# Altium footprint library INF-PG-TO220-7-12.PcbLib: 1 footprints
Each footprint in its own frame and in the unit in brackets; x right, y up, seen from the top. Pads: shape width x height; smd on the part's side, far side on the other; paste and mask are expansions set on the pad; w line width, h text height; cw(c..) or ccw(c..) is an arc to the next point about the centre after c.
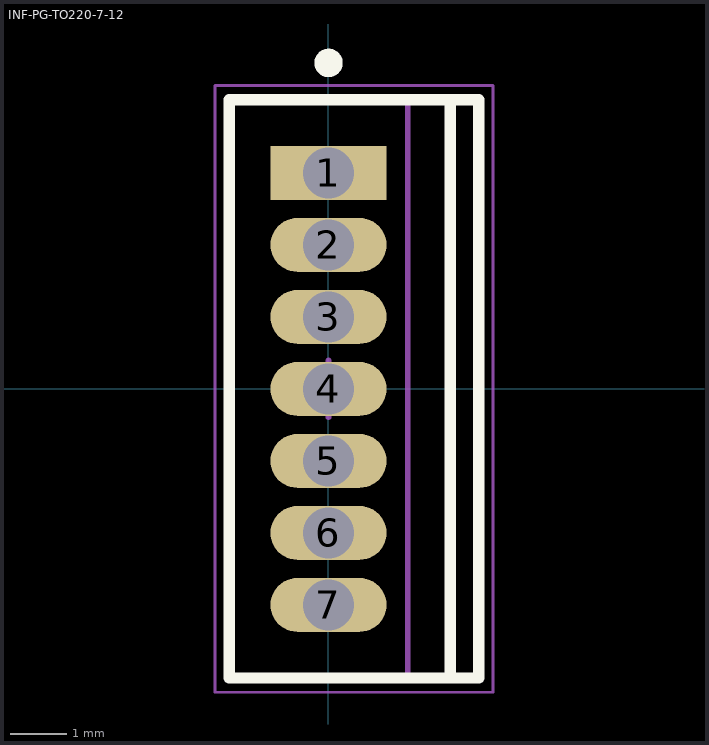
[diagram p0: the footprint, top view; thin cyan lines are the x and y axes]

## INF-PG-TO220-7-12 [mm] "FM, 7-Leads, Body 10x4.4mm, Pitch 1.27mm"
height 17.73
pads (7):
  rect 2.05x0.95 hole 0.9: 1(0,3.81)
  oval 2.05x0.95 hole 0.9: 2(0,2.54) 3(0,1.27) 4(0,0) 5(0,-1.27) 6(0,-2.54) 7(0,-3.81)
Top Overlay:
  circle w0.25: c0,5.75 r0.125
  lines w0.2: 2.15,-5.1 2.15,5.1 ; -1.75,-5.1 -1.75,5.1 2.65,5.1 2.65,-5.1 -1.75,-5.1
Mechanical 13:
  lines w0.1: 1.4,-5.1 1.4,5.1 ; -1.75,-5.1 2.65,-5.1 2.65,5.1 -1.75,5.1 -1.75,-5.1
Mechanical 15:
  lines w0.05: -2,-5.35 2.9,-5.35 2.9,5.35 -2,5.35 -2,-5.35
  lines w0.1: -0.5,0 0.5,0 ; 0,-0.5 0,0.5
3D body: height 17.73, standoff 16.76, extent 1.4,-4.95 2.65,4.95
3D body: height 15.29, standoff 14.93, extent 1.4,-4.95 2.65,-1.825
3D body: height 15.29, standoff 14.93, extent 1.4,1.825 2.65,4.95
3D body: height 14.93, standoff 14.57, extent 1.4,-4.95 2.65,-1.825
3D body: height 14.93, standoff 14.57, extent 1.4,1.825 2.65,4.95
3D body: height 15.63, standoff 15.29, extent 1.4,-4.95 2.65,-1.79
3D body: height 15.63, standoff 15.29, extent 1.4,1.79 2.65,4.95
3D body: height 14.58, standoff 14.23, extent 1.4,-4.95 2.65,-1.79
3D body: height 14.58, standoff 14.23, extent 1.4,1.79 2.65,4.95
3D body: height 15.95, standoff 15.63, extent 1.4,-4.95 2.65,-1.686
3D body: height 15.95, standoff 15.63, extent 1.4,1.686 2.65,4.95
3D body: height 14.24, standoff 13.92, extent 1.4,-4.95 2.65,-1.686
3D body: height 14.24, standoff 13.92, extent 1.4,1.686 2.65,4.95
3D body: height 16.23, standoff 15.94, extent 1.4,-4.95 2.65,-1.517
3D body: height 16.23, standoff 15.94, extent 1.4,1.517 2.65,4.95
3D body: height 13.92, standoff 13.64, extent 1.4,-4.95 2.65,-1.517
3D body: height 13.92, standoff 13.64, extent 1.4,1.517 2.65,4.95
3D body: height 16.45, standoff 16.22, extent 1.4,-4.95 2.65,-1.29
3D body: height 16.45, standoff 16.22, extent 1.4,1.29 2.65,4.95
3D body: height 13.64, standoff 13.41, extent 1.4,-4.95 2.65,-1.29
3D body: height 13.64, standoff 13.41, extent 1.4,1.29 2.65,4.95
3D body: height 16.62, standoff 16.45, extent 1.4,-4.95 2.65,-1.014
3D body: height 16.62, standoff 16.45, extent 1.4,1.014 2.65,4.95
3D body: height 13.42, standoff 13.24, extent 1.4,-4.95 2.65,-1.014
3D body: height 13.42, standoff 13.24, extent 1.4,1.014 2.65,4.95
3D body: height 16.72, standoff 16.62, extent 1.4,-4.95 2.65,-0.698
3D body: height 16.72, standoff 16.62, extent 1.4,0.698 2.65,4.95
3D body: height 13.25, standoff 13.14, extent 1.4,-4.95 2.65,-0.698
3D body: height 13.25, standoff 13.14, extent 1.4,0.698 2.65,4.95
3D body: height 16.76, standoff 16.72, extent 1.4,-4.95 2.65,-0.356
3D body: height 16.76, standoff 16.72, extent 1.4,0.356 2.65,4.95
3D body: height 13.15, standoff 13.11, extent 1.4,-4.95 2.65,-0.356
3D body: height 13.15, standoff 13.11, extent 1.4,0.356 2.65,4.95
3D body: height 13.11, standoff 11.33, extent 1.4,-4.95 2.65,4.95
3D body: height 11.33, standoff 0.92, extent -1.75,-5.1 2.65,5.1
3D body: height 0, standoff -1.6, extent -0.25,-4.11 0.25,-3.51
3D body: height 0.92, standoff 0, extent -0.25,-4.31 0.25,-3.31
3D body: height 0, standoff -1.6, extent -0.25,-2.84 0.25,-2.24
3D body: height 0.92, standoff 0, extent -0.25,-3.04 0.25,-2.04
3D body: height 0, standoff -1.6, extent -0.25,-1.57 0.25,-0.97
3D body: height 0.92, standoff 0, extent -0.25,-1.77 0.25,-0.77
3D body: height 0, standoff -1.6, extent -0.25,-0.3 0.25,0.3
3D body: height 0.92, standoff 0, extent -0.25,-0.5 0.25,0.5
3D body: height 0, standoff -1.6, extent -0.25,0.97 0.25,1.57
3D body: height 0.92, standoff 0, extent -0.25,0.77 0.25,1.77
3D body: height 0, standoff -1.6, extent -0.25,2.24 0.25,2.84
3D body: height 0.92, standoff 0, extent -0.25,2.04 0.25,3.04
3D body: height 0, standoff -1.6, extent -0.25,3.51 0.25,4.11
3D body: height 0.92, standoff 0, extent -0.25,3.31 0.25,4.31